# Altium footprint library Current_sense_13x7x5.PcbLib: 1 footprints
Each footprint in its own frame and in the unit in brackets; x right, y up, seen from the top. Pads: shape width x height; smd on the part's side, far side on the other; paste and mask are expansions set on the pad; w line width, h text height; cw(c..) or ccw(c..) is an arc to the next point about the centre after c.
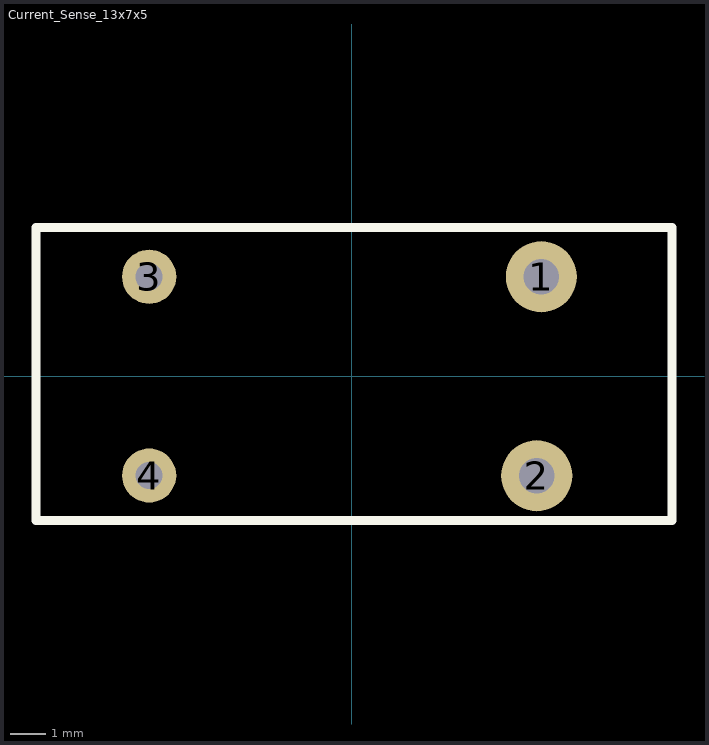
[diagram p0: the footprint, top view; thin cyan lines are the x and y axes]

## Current_Sense_13x7x5 [mm]
pads (4):
  round 2 hole 1: 1(5.334,2.8) 2(5.207,-2.8)
  round 1.524 hole 0.762: 3(-5.7,2.8) 4(-5.7,-2.794)
Top Overlay:
  lines w0.254: -8.89,-4.064 9.017,-4.064 9.017,4.191 -8.89,4.191 -8.89,-4.064
3D body "Current sensor 13x7x5.STEP": height 17.72, standoff -7.2, extent -12.581,-3.35 12.34,3.35